# EAGLE library part DG303BDY (library Vishay)
CMOS Analog Switches
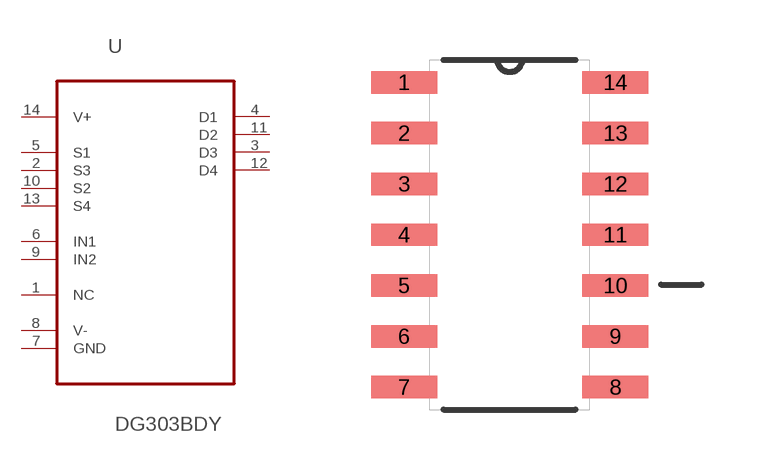
[diagram p14: symbol with the pads of SOIC127P600X175-14N; footprint SOIC127P600X175-14N]

Designator prefix U

## DG303BDY (MPN: DG303BDY; OC_FARNELL: 5393115; OC_NEWARK: 45C9721; PACKAGE: SOIC-16; SUPPLIER: Vishay)  [SOIC127P600X175-14N]
1  NC  nc
2  S3  pas
3  D3  out
4  D1  out
5  S1  pas
6  IN1  in
7  GND  pas
8  V-  pwr
9  IN2  in
10  S2  pas
11  D2  out
12  D4  out
13  S4  pas
14  V+  pwr

## Footprint SOIC127P600X175-14N (pad centres in mm)
smd 1.651 x 0.559: 1 -2.642,3.81; 2 -2.642,2.54; 3 -2.642,1.27; 4 -2.642,0; 5 -2.642,-1.27; 6 -2.642,-2.54; 7 -2.642,-3.81; 8 2.642,-3.81; 9 2.642,-2.54; 10 2.642,-1.27; 11 2.642,0; 12 2.642,1.27; 13 2.642,2.54; 14 2.642,3.81